# Altium integrated library ST Memory EPROM 1-16 Mbit.IntLib: 1093 symbols (part 14 of 27)
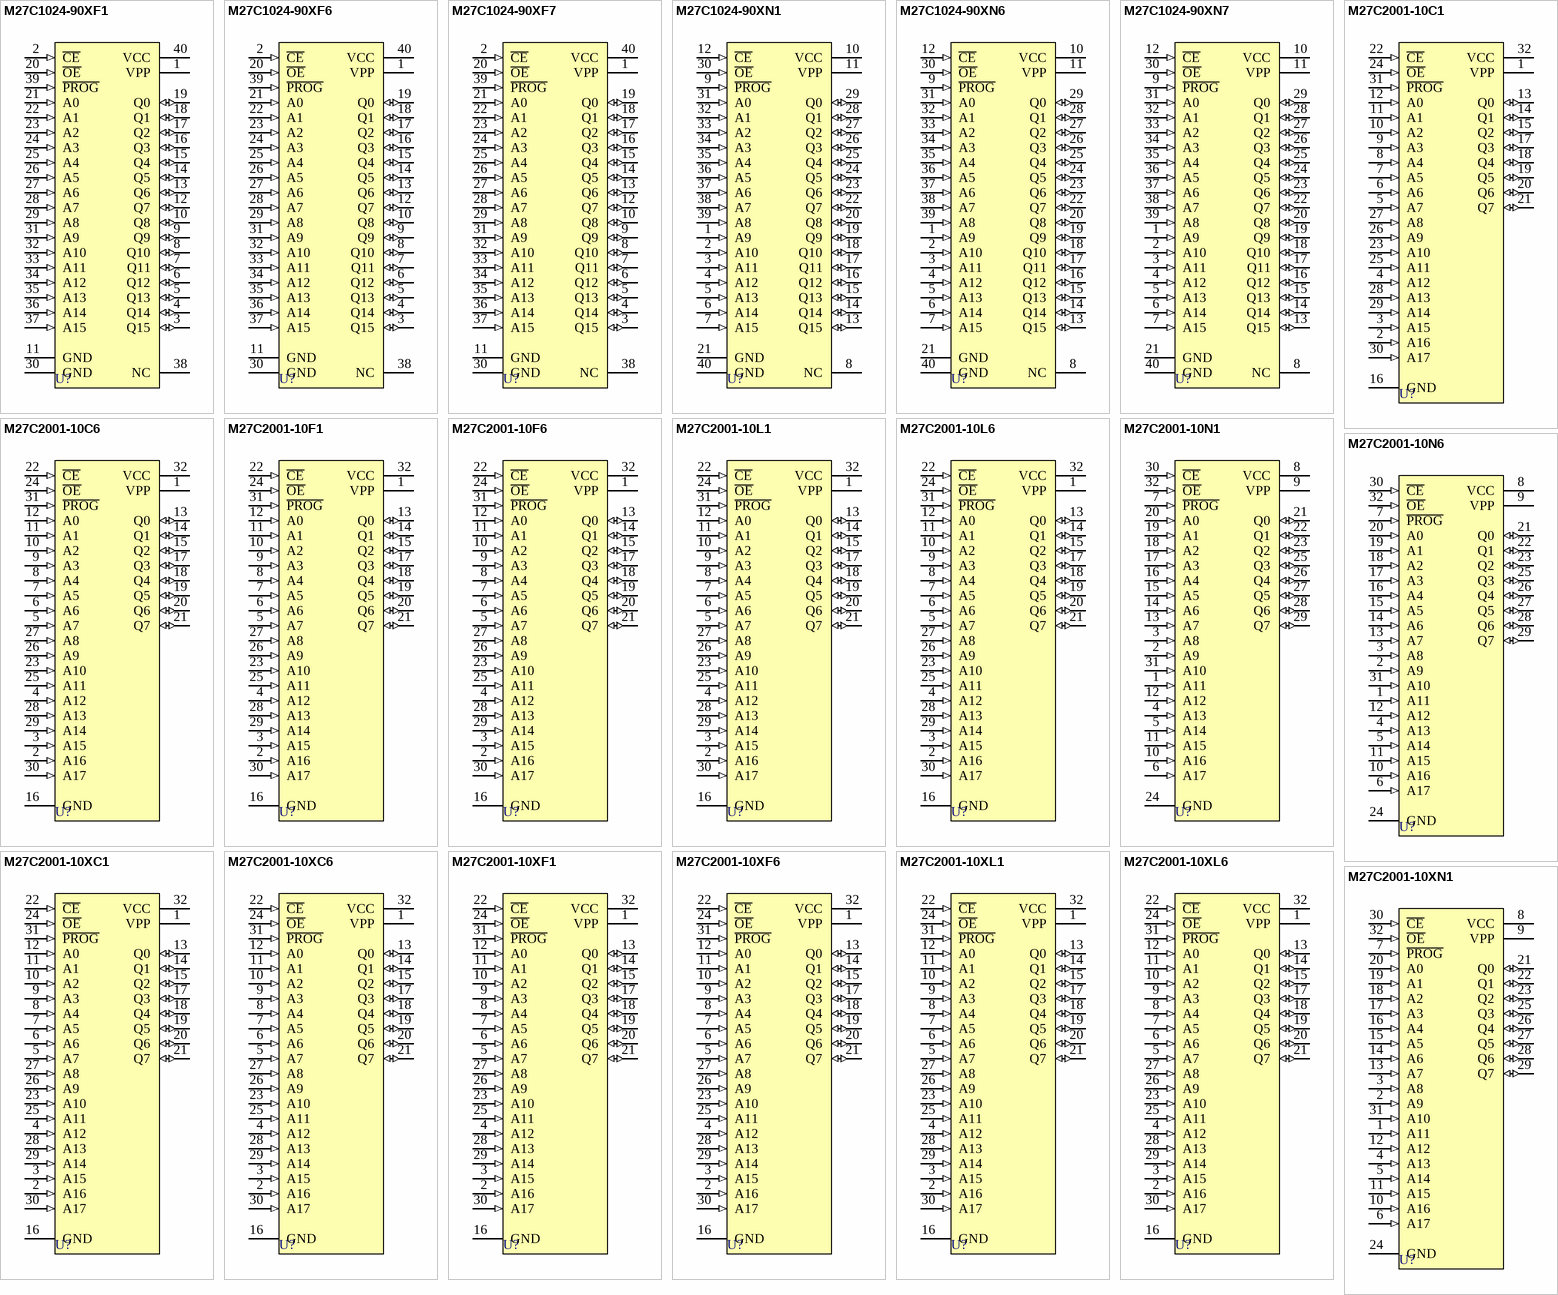
[diagram p70: symbols M27C1024-90XF1 to M27C2001-10XN1]

## M27C1024-90XN1
designator U?
1 Mbit (64Kb x 16) UV EPROM and OTP EPROM; Published: 24-Aug-2001; LatestRevisionDate: 06-Jun-2005; LatestRevisionNote: Stylized 3D Model Added.; DatasheetVersion: Sep-1998; PackageVersion: Jul-1998; PackageReference: TSOP40B; Publisher: Altium Limited; PackageDescription: Shrink Small Outline, Plastic, Thin; 40 Leads; Body Width 12.4 mm; Pitch 0.5 mm; Code_JEDEC: MO-142-CA; ComponentLink1Description: Manufacturer Link; ComponentLink1URL: http://www.st.com/; ComponentLink2Description: Datasheet; ComponentLink2URL: http://www.st.com/stonline/products/literature/ds/2381/m27c1024.pdf
footprint TSOP40B (Shrink Small Outline, Plastic, Thin; 40 Leads; Body Width 12.4 mm; Pitch 0.5 mm)
3D model TSOP40B (Shrink Small Outline, Plastic, Thin; 40 Leads; Body Width 12.4 mm; Pitch 0.5 mm)
pins: 1 A9 (in), 2 A10 (in), 3 A11 (in), 4 A12 (in), 5 A13 (in), 6 A14 (in), 7 A15 (in), 8 NC, 9 ~{PROG} (in), 10 VCC (power), 11 VPP (power), 12 ~{CE} (in), 13 Q15 (io), 14 Q14 (io), 15 Q13 (io), 16 Q12 (io), 17 Q11 (io), 18 Q10 (io), 19 Q9 (io), 20 Q8 (io), 21 GND (power), 22 Q7 (io), 23 Q6 (io), 24 Q5 (io), 25 Q4 (io), 26 Q3 (io), 27 Q2 (io), 28 Q1 (io), 29 Q0 (io), 30 ~{OE} (in), 31 A0 (in), 32 A1 (in), 33 A2 (in), 34 A3 (in), 35 A4 (in), 36 A5 (in), 37 A6 (in), 38 A7 (in), 39 A8 (in), 40 GND (power)

## M27C1024-90XN6
designator U?
1 Mbit (64Kb x 16) UV EPROM and OTP EPROM; Published: 24-Aug-2001; LatestRevisionDate: 06-Jun-2005; LatestRevisionNote: Stylized 3D Model Added.; DatasheetVersion: Sep-1998; PackageVersion: Jul-1998; PackageReference: TSOP40B; Publisher: Altium Limited; PackageDescription: Shrink Small Outline, Plastic, Thin; 40 Leads; Body Width 12.4 mm; Pitch 0.5 mm; Code_JEDEC: MO-142-CA; ComponentLink1Description: Manufacturer Link; ComponentLink1URL: http://www.st.com/; ComponentLink2Description: Datasheet; ComponentLink2URL: http://www.st.com/stonline/products/literature/ds/2381/m27c1024.pdf
footprint TSOP40B (Shrink Small Outline, Plastic, Thin; 40 Leads; Body Width 12.4 mm; Pitch 0.5 mm)
3D model TSOP40B (Shrink Small Outline, Plastic, Thin; 40 Leads; Body Width 12.4 mm; Pitch 0.5 mm)
pins: 1 A9 (in), 2 A10 (in), 3 A11 (in), 4 A12 (in), 5 A13 (in), 6 A14 (in), 7 A15 (in), 8 NC, 9 ~{PROG} (in), 10 VCC (power), 11 VPP (power), 12 ~{CE} (in), 13 Q15 (io), 14 Q14 (io), 15 Q13 (io), 16 Q12 (io), 17 Q11 (io), 18 Q10 (io), 19 Q9 (io), 20 Q8 (io), 21 GND (power), 22 Q7 (io), 23 Q6 (io), 24 Q5 (io), 25 Q4 (io), 26 Q3 (io), 27 Q2 (io), 28 Q1 (io), 29 Q0 (io), 30 ~{OE} (in), 31 A0 (in), 32 A1 (in), 33 A2 (in), 34 A3 (in), 35 A4 (in), 36 A5 (in), 37 A6 (in), 38 A7 (in), 39 A8 (in), 40 GND (power)

## M27C1024-90XN7
designator U?
1 Mbit (64Kb x 16) UV EPROM and OTP EPROM; Published: 24-Aug-2001; LatestRevisionDate: 06-Jun-2005; LatestRevisionNote: Stylized 3D Model Added.; DatasheetVersion: Sep-1998; PackageVersion: Jul-1998; PackageReference: TSOP40B; Publisher: Altium Limited; PackageDescription: Shrink Small Outline, Plastic, Thin; 40 Leads; Body Width 12.4 mm; Pitch 0.5 mm; Code_JEDEC: MO-142-CA; ComponentLink1Description: Manufacturer Link; ComponentLink1URL: http://www.st.com/; ComponentLink2Description: Datasheet; ComponentLink2URL: http://www.st.com/stonline/products/literature/ds/2381/m27c1024.pdf
footprint TSOP40B (Shrink Small Outline, Plastic, Thin; 40 Leads; Body Width 12.4 mm; Pitch 0.5 mm)
3D model TSOP40B (Shrink Small Outline, Plastic, Thin; 40 Leads; Body Width 12.4 mm; Pitch 0.5 mm)
pins: 1 A9 (in), 2 A10 (in), 3 A11 (in), 4 A12 (in), 5 A13 (in), 6 A14 (in), 7 A15 (in), 8 NC, 9 ~{PROG} (in), 10 VCC (power), 11 VPP (power), 12 ~{CE} (in), 13 Q15 (io), 14 Q14 (io), 15 Q13 (io), 16 Q12 (io), 17 Q11 (io), 18 Q10 (io), 19 Q9 (io), 20 Q8 (io), 21 GND (power), 22 Q7 (io), 23 Q6 (io), 24 Q5 (io), 25 Q4 (io), 26 Q3 (io), 27 Q2 (io), 28 Q1 (io), 29 Q0 (io), 30 ~{OE} (in), 31 A0 (in), 32 A1 (in), 33 A2 (in), 34 A3 (in), 35 A4 (in), 36 A5 (in), 37 A6 (in), 38 A7 (in), 39 A8 (in), 40 GND (power)

## M27C2001-10C1
designator U?
2 Mbit (256Kb x 8) UV EPROM and OTP EPROM; Published: 24-Aug-2001; LatestRevisionDate: 06-Jun-2005; LatestRevisionNote: Stylized 3D Model Added.; DatasheetVersion: Apr-1999; PackageVersion: Jun-1998; PackageReference: PLCC32; Publisher: Altium Limited; PackageDescription: Leaded Chip Carrier; 32 Leads; Body 11.5 x 14 mm; Code_JEDEC: MS-016-AE; Code_IPC: PLCC/R-32; ComponentLink1Description: Manufacturer Link; ComponentLink1URL: http://www.st.com/; ComponentLink2Description: Datasheet; ComponentLink2URL: http://www.st.com/stonline/products/literature/ds/2383/m27c2001.pdf
footprint PLCC32 (Leaded Chip Carrier; 32 Leads; Body 11.5 x 14 mm)
3D model M27C2001-PLCC32 (Leaded Chip Carrier; 32 Leads; Body 11.5 x 14 mm)
pins: 1 VPP (power), 2 A16 (in), 3 A15 (in), 4 A12 (in), 5 A7 (in), 6 A6 (in), 7 A5 (in), 8 A4 (in), 9 A3 (in), 10 A2 (in), 11 A1 (in), 12 A0 (in), 13 Q0 (io), 14 Q1 (io), 15 Q2 (io), 16 GND (power), 17 Q3 (io), 18 Q4 (io), 19 Q5 (io), 20 Q6 (io), 21 Q7 (io), 22 ~{CE} (in), 23 A10 (in), 24 ~{OE} (in), 25 A11 (in), 26 A9 (in), 27 A8 (in), 28 A13 (in), 29 A14 (in), 30 A17 (in), 31 ~{PROG} (in), 32 VCC (power)

## M27C2001-10C6
designator U?
2 Mbit (256Kb x 8) UV EPROM and OTP EPROM; Published: 24-Aug-2001; LatestRevisionDate: 06-Jun-2005; LatestRevisionNote: Stylized 3D Model Added.; DatasheetVersion: Apr-1999; PackageVersion: Jun-1998; PackageReference: PLCC32; Publisher: Altium Limited; PackageDescription: Leaded Chip Carrier; 32 Leads; Body 11.5 x 14 mm; Code_JEDEC: MS-016-AE; Code_IPC: PLCC/R-32; ComponentLink1Description: Manufacturer Link; ComponentLink1URL: http://www.st.com/; ComponentLink2Description: Datasheet; ComponentLink2URL: http://www.st.com/stonline/products/literature/ds/2383/m27c2001.pdf
footprint PLCC32 (Leaded Chip Carrier; 32 Leads; Body 11.5 x 14 mm)
3D model M27C2001-PLCC32 (Leaded Chip Carrier; 32 Leads; Body 11.5 x 14 mm)
pins: 1 VPP (power), 2 A16 (in), 3 A15 (in), 4 A12 (in), 5 A7 (in), 6 A6 (in), 7 A5 (in), 8 A4 (in), 9 A3 (in), 10 A2 (in), 11 A1 (in), 12 A0 (in), 13 Q0 (io), 14 Q1 (io), 15 Q2 (io), 16 GND (power), 17 Q3 (io), 18 Q4 (io), 19 Q5 (io), 20 Q6 (io), 21 Q7 (io), 22 ~{CE} (in), 23 A10 (in), 24 ~{OE} (in), 25 A11 (in), 26 A9 (in), 27 A8 (in), 28 A13 (in), 29 A14 (in), 30 A17 (in), 31 ~{PROG} (in), 32 VCC (power)

## M27C2001-10F1
designator U?
2 Mbit (256Kb x 8) UV EPROM and OTP EPROM; Published: 24-Aug-2001; LatestRevisionDate: 06-Jun-2005; LatestRevisionNote: Stylized 3D Model Added.; DatasheetVersion: Apr-1999; PackageReference: FDIP32W; Publisher: Altium Limited; PackageDescription: Ceramic Frit-seal DIP, Window; 32 Leads; Row Spacing 15.24 mm; Pitch 2.54 mm; ComponentLink1Description: Manufacturer Link; ComponentLink1URL: http://www.st.com/; ComponentLink2Description: Datasheet; ComponentLink2URL: http://www.st.com/stonline/products/literature/ds/2383/m27c2001.pdf
footprint FDIP32W (Ceramic Frit-seal DIP, Window; 32 Leads; Row Spacing 15.24 mm; Pitch 2.54 mm)
3D model FDIP32W (Ceramic Frit-seal DIP, Window; 32 Leads; Row Spacing 15.24 mm; Pitch 2.54 mm)
pins: 1 VPP (power), 2 A16 (in), 3 A15 (in), 4 A12 (in), 5 A7 (in), 6 A6 (in), 7 A5 (in), 8 A4 (in), 9 A3 (in), 10 A2 (in), 11 A1 (in), 12 A0 (in), 13 Q0 (io), 14 Q1 (io), 15 Q2 (io), 16 GND (power), 17 Q3 (io), 18 Q4 (io), 19 Q5 (io), 20 Q6 (io), 21 Q7 (io), 22 ~{CE} (in), 23 A10 (in), 24 ~{OE} (in), 25 A11 (in), 26 A9 (in), 27 A8 (in), 28 A13 (in), 29 A14 (in), 30 A17 (in), 31 ~{PROG} (in), 32 VCC (power)

## M27C2001-10F6
designator U?
2 Mbit (256Kb x 8) UV EPROM and OTP EPROM; Published: 24-Aug-2001; LatestRevisionDate: 06-Jun-2005; LatestRevisionNote: Stylized 3D Model Added.; DatasheetVersion: Apr-1999; PackageReference: FDIP32W; Publisher: Altium Limited; PackageDescription: Ceramic Frit-seal DIP, Window; 32 Leads; Row Spacing 15.24 mm; Pitch 2.54 mm; ComponentLink1Description: Manufacturer Link; ComponentLink1URL: http://www.st.com/; ComponentLink2Description: Datasheet; ComponentLink2URL: http://www.st.com/stonline/products/literature/ds/2383/m27c2001.pdf
footprint FDIP32W (Ceramic Frit-seal DIP, Window; 32 Leads; Row Spacing 15.24 mm; Pitch 2.54 mm)
3D model FDIP32W (Ceramic Frit-seal DIP, Window; 32 Leads; Row Spacing 15.24 mm; Pitch 2.54 mm)
pins: 1 VPP (power), 2 A16 (in), 3 A15 (in), 4 A12 (in), 5 A7 (in), 6 A6 (in), 7 A5 (in), 8 A4 (in), 9 A3 (in), 10 A2 (in), 11 A1 (in), 12 A0 (in), 13 Q0 (io), 14 Q1 (io), 15 Q2 (io), 16 GND (power), 17 Q3 (io), 18 Q4 (io), 19 Q5 (io), 20 Q6 (io), 21 Q7 (io), 22 ~{CE} (in), 23 A10 (in), 24 ~{OE} (in), 25 A11 (in), 26 A9 (in), 27 A8 (in), 28 A13 (in), 29 A14 (in), 30 A17 (in), 31 ~{PROG} (in), 32 VCC (power)

## M27C2001-10L1
designator U?
2 Mbit (256Kb x 8) UV EPROM and OTP EPROM; Published: 24-Aug-2001; LatestRevisionDate: 17-Jul-2002; LatestRevisionNote: Re-released for DXP Platform.; DatasheetVersion: Apr-1999; PackageReference: LCCC32W; Publisher: Altium Limited; PackageDescription: Leadless Chip Carrier, Ceramic, Window; 32 Terminals; Body 11.4 x 14 mm; ComponentLink1Description: Manufacturer Link; ComponentLink1URL: http://www.st.com/; ComponentLink2Description: Datasheet; ComponentLink2URL: http://www.st.com/stonline/products/literature/ds/2383/m27c2001.pdf
footprint LCCC32W (Leadless Chip Carrier, Ceramic, Window; 32 Terminals; Body 11.4 x 14 mm)
pins: 1 VPP (power), 2 A16 (in), 3 A15 (in), 4 A12 (in), 5 A7 (in), 6 A6 (in), 7 A5 (in), 8 A4 (in), 9 A3 (in), 10 A2 (in), 11 A1 (in), 12 A0 (in), 13 Q0 (io), 14 Q1 (io), 15 Q2 (io), 16 GND (power), 17 Q3 (io), 18 Q4 (io), 19 Q5 (io), 20 Q6 (io), 21 Q7 (io), 22 ~{CE} (in), 23 A10 (in), 24 ~{OE} (in), 25 A11 (in), 26 A9 (in), 27 A8 (in), 28 A13 (in), 29 A14 (in), 30 A17 (in), 31 ~{PROG} (in), 32 VCC (power)

## M27C2001-10L6
designator U?
2 Mbit (256Kb x 8) UV EPROM and OTP EPROM; Published: 24-Aug-2001; LatestRevisionDate: 17-Jul-2002; LatestRevisionNote: Re-released for DXP Platform.; DatasheetVersion: Apr-1999; PackageReference: LCCC32W; Publisher: Altium Limited; PackageDescription: Leadless Chip Carrier, Ceramic, Window; 32 Terminals; Body 11.4 x 14 mm; ComponentLink1Description: Manufacturer Link; ComponentLink1URL: http://www.st.com/; ComponentLink2Description: Datasheet; ComponentLink2URL: http://www.st.com/stonline/products/literature/ds/2383/m27c2001.pdf
footprint LCCC32W (Leadless Chip Carrier, Ceramic, Window; 32 Terminals; Body 11.4 x 14 mm)
pins: 1 VPP (power), 2 A16 (in), 3 A15 (in), 4 A12 (in), 5 A7 (in), 6 A6 (in), 7 A5 (in), 8 A4 (in), 9 A3 (in), 10 A2 (in), 11 A1 (in), 12 A0 (in), 13 Q0 (io), 14 Q1 (io), 15 Q2 (io), 16 GND (power), 17 Q3 (io), 18 Q4 (io), 19 Q5 (io), 20 Q6 (io), 21 Q7 (io), 22 ~{CE} (in), 23 A10 (in), 24 ~{OE} (in), 25 A11 (in), 26 A9 (in), 27 A8 (in), 28 A13 (in), 29 A14 (in), 30 A17 (in), 31 ~{PROG} (in), 32 VCC (power)

## M27C2001-10N1
designator U?
2 Mbit (256Kb x 8) UV EPROM and OTP EPROM; Published: 24-Aug-2001; LatestRevisionDate: 06-Jun-2005; LatestRevisionNote: Stylized 3D Model Added.; DatasheetVersion: Apr-1999; PackageVersion: Mar-1999; PackageReference: TSOP32; Publisher: Altium Limited; PackageDescription: Shrink Small Outline, Plastic, Thin; 32 Leads; Body Width 18.4 mm; Pitch 0.5 mm; Code_JEDEC: MO-142-BD; ComponentLink1Description: Manufacturer Link; ComponentLink1URL: http://www.st.com/; ComponentLink2Description: Datasheet; ComponentLink2URL: http://www.st.com/stonline/products/literature/ds/2383/m27c2001.pdf
footprint TSOP32 (Shrink Small Outline, Plastic, Thin; 32 Leads; Body Width 18.4 mm; Pitch 0.5 mm)
3D model TSOP32 (Shrink Small Outline, Plastic, Thin; 32 Leads; Body Width 18.4 mm; Pitch 0.5 mm)
pins: 1 A11 (in), 2 A9 (in), 3 A8 (in), 4 A13 (in), 5 A14 (in), 6 A17 (in), 7 ~{PROG} (in), 8 VCC (power), 9 VPP (power), 10 A16 (in), 11 A15 (in), 12 A12 (in), 13 A7 (in), 14 A6 (in), 15 A5 (in), 16 A4 (in), 17 A3 (in), 18 A2 (in), 19 A1 (in), 20 A0 (in), 21 Q0 (io), 22 Q1 (io), 23 Q2 (io), 24 GND (power), 25 Q3 (io), 26 Q4 (io), 27 Q5 (io), 28 Q6 (io), 29 Q7 (io), 30 ~{CE} (in), 31 A10 (in), 32 ~{OE} (in)

## M27C2001-10N6
designator U?
2 Mbit (256Kb x 8) UV EPROM and OTP EPROM; Published: 24-Aug-2001; LatestRevisionDate: 06-Jun-2005; LatestRevisionNote: Stylized 3D Model Added.; DatasheetVersion: Apr-1999; PackageVersion: Mar-1999; PackageReference: TSOP32; Publisher: Altium Limited; PackageDescription: Shrink Small Outline, Plastic, Thin; 32 Leads; Body Width 18.4 mm; Pitch 0.5 mm; Code_JEDEC: MO-142-BD; ComponentLink1Description: Manufacturer Link; ComponentLink1URL: http://www.st.com/; ComponentLink2Description: Datasheet; ComponentLink2URL: http://www.st.com/stonline/products/literature/ds/2383/m27c2001.pdf
footprint TSOP32 (Shrink Small Outline, Plastic, Thin; 32 Leads; Body Width 18.4 mm; Pitch 0.5 mm)
3D model TSOP32 (Shrink Small Outline, Plastic, Thin; 32 Leads; Body Width 18.4 mm; Pitch 0.5 mm)
pins: 1 A11 (in), 2 A9 (in), 3 A8 (in), 4 A13 (in), 5 A14 (in), 6 A17 (in), 7 ~{PROG} (in), 8 VCC (power), 9 VPP (power), 10 A16 (in), 11 A15 (in), 12 A12 (in), 13 A7 (in), 14 A6 (in), 15 A5 (in), 16 A4 (in), 17 A3 (in), 18 A2 (in), 19 A1 (in), 20 A0 (in), 21 Q0 (io), 22 Q1 (io), 23 Q2 (io), 24 GND (power), 25 Q3 (io), 26 Q4 (io), 27 Q5 (io), 28 Q6 (io), 29 Q7 (io), 30 ~{CE} (in), 31 A10 (in), 32 ~{OE} (in)

## M27C2001-10XC1
designator U?
2 Mbit (256Kb x 8) UV EPROM and OTP EPROM; Published: 24-Aug-2001; LatestRevisionDate: 06-Jun-2005; LatestRevisionNote: Stylized 3D Model Added.; DatasheetVersion: Apr-1999; PackageVersion: Jun-1998; PackageReference: PLCC32; Publisher: Altium Limited; PackageDescription: Leaded Chip Carrier; 32 Leads; Body 11.5 x 14 mm; Code_JEDEC: MS-016-AE; Code_IPC: PLCC/R-32; ComponentLink1Description: Manufacturer Link; ComponentLink1URL: http://www.st.com/; ComponentLink2Description: Datasheet; ComponentLink2URL: http://www.st.com/stonline/products/literature/ds/2383/m27c2001.pdf
footprint PLCC32 (Leaded Chip Carrier; 32 Leads; Body 11.5 x 14 mm)
3D model M27C2001-PLCC32 (Leaded Chip Carrier; 32 Leads; Body 11.5 x 14 mm)
pins: 1 VPP (power), 2 A16 (in), 3 A15 (in), 4 A12 (in), 5 A7 (in), 6 A6 (in), 7 A5 (in), 8 A4 (in), 9 A3 (in), 10 A2 (in), 11 A1 (in), 12 A0 (in), 13 Q0 (io), 14 Q1 (io), 15 Q2 (io), 16 GND (power), 17 Q3 (io), 18 Q4 (io), 19 Q5 (io), 20 Q6 (io), 21 Q7 (io), 22 ~{CE} (in), 23 A10 (in), 24 ~{OE} (in), 25 A11 (in), 26 A9 (in), 27 A8 (in), 28 A13 (in), 29 A14 (in), 30 A17 (in), 31 ~{PROG} (in), 32 VCC (power)

## M27C2001-10XC6
designator U?
2 Mbit (256Kb x 8) UV EPROM and OTP EPROM; Published: 24-Aug-2001; LatestRevisionDate: 06-Jun-2005; LatestRevisionNote: Stylized 3D Model Added.; DatasheetVersion: Apr-1999; PackageVersion: Jun-1998; PackageReference: PLCC32; Publisher: Altium Limited; PackageDescription: Leaded Chip Carrier; 32 Leads; Body 11.5 x 14 mm; Code_JEDEC: MS-016-AE; Code_IPC: PLCC/R-32; ComponentLink1Description: Manufacturer Link; ComponentLink1URL: http://www.st.com/; ComponentLink2Description: Datasheet; ComponentLink2URL: http://www.st.com/stonline/products/literature/ds/2383/m27c2001.pdf
footprint PLCC32 (Leaded Chip Carrier; 32 Leads; Body 11.5 x 14 mm)
3D model M27C2001-PLCC32 (Leaded Chip Carrier; 32 Leads; Body 11.5 x 14 mm)
pins: 1 VPP (power), 2 A16 (in), 3 A15 (in), 4 A12 (in), 5 A7 (in), 6 A6 (in), 7 A5 (in), 8 A4 (in), 9 A3 (in), 10 A2 (in), 11 A1 (in), 12 A0 (in), 13 Q0 (io), 14 Q1 (io), 15 Q2 (io), 16 GND (power), 17 Q3 (io), 18 Q4 (io), 19 Q5 (io), 20 Q6 (io), 21 Q7 (io), 22 ~{CE} (in), 23 A10 (in), 24 ~{OE} (in), 25 A11 (in), 26 A9 (in), 27 A8 (in), 28 A13 (in), 29 A14 (in), 30 A17 (in), 31 ~{PROG} (in), 32 VCC (power)

## M27C2001-10XF1
designator U?
2 Mbit (256Kb x 8) UV EPROM and OTP EPROM; Published: 24-Aug-2001; LatestRevisionDate: 06-Jun-2005; LatestRevisionNote: Stylized 3D Model Added.; DatasheetVersion: Apr-1999; PackageReference: FDIP32W; Publisher: Altium Limited; PackageDescription: Ceramic Frit-seal DIP, Window; 32 Leads; Row Spacing 15.24 mm; Pitch 2.54 mm; ComponentLink1Description: Manufacturer Link; ComponentLink1URL: http://www.st.com/; ComponentLink2Description: Datasheet; ComponentLink2URL: http://www.st.com/stonline/products/literature/ds/2383/m27c2001.pdf
footprint FDIP32W (Ceramic Frit-seal DIP, Window; 32 Leads; Row Spacing 15.24 mm; Pitch 2.54 mm)
3D model FDIP32W (Ceramic Frit-seal DIP, Window; 32 Leads; Row Spacing 15.24 mm; Pitch 2.54 mm)
pins: 1 VPP (power), 2 A16 (in), 3 A15 (in), 4 A12 (in), 5 A7 (in), 6 A6 (in), 7 A5 (in), 8 A4 (in), 9 A3 (in), 10 A2 (in), 11 A1 (in), 12 A0 (in), 13 Q0 (io), 14 Q1 (io), 15 Q2 (io), 16 GND (power), 17 Q3 (io), 18 Q4 (io), 19 Q5 (io), 20 Q6 (io), 21 Q7 (io), 22 ~{CE} (in), 23 A10 (in), 24 ~{OE} (in), 25 A11 (in), 26 A9 (in), 27 A8 (in), 28 A13 (in), 29 A14 (in), 30 A17 (in), 31 ~{PROG} (in), 32 VCC (power)

## M27C2001-10XF6
designator U?
2 Mbit (256Kb x 8) UV EPROM and OTP EPROM; Published: 24-Aug-2001; LatestRevisionDate: 06-Jun-2005; LatestRevisionNote: Stylized 3D Model Added.; DatasheetVersion: Apr-1999; PackageReference: FDIP32W; Publisher: Altium Limited; PackageDescription: Ceramic Frit-seal DIP, Window; 32 Leads; Row Spacing 15.24 mm; Pitch 2.54 mm; ComponentLink1Description: Manufacturer Link; ComponentLink1URL: http://www.st.com/; ComponentLink2Description: Datasheet; ComponentLink2URL: http://www.st.com/stonline/products/literature/ds/2383/m27c2001.pdf
footprint FDIP32W (Ceramic Frit-seal DIP, Window; 32 Leads; Row Spacing 15.24 mm; Pitch 2.54 mm)
3D model FDIP32W (Ceramic Frit-seal DIP, Window; 32 Leads; Row Spacing 15.24 mm; Pitch 2.54 mm)
pins: 1 VPP (power), 2 A16 (in), 3 A15 (in), 4 A12 (in), 5 A7 (in), 6 A6 (in), 7 A5 (in), 8 A4 (in), 9 A3 (in), 10 A2 (in), 11 A1 (in), 12 A0 (in), 13 Q0 (io), 14 Q1 (io), 15 Q2 (io), 16 GND (power), 17 Q3 (io), 18 Q4 (io), 19 Q5 (io), 20 Q6 (io), 21 Q7 (io), 22 ~{CE} (in), 23 A10 (in), 24 ~{OE} (in), 25 A11 (in), 26 A9 (in), 27 A8 (in), 28 A13 (in), 29 A14 (in), 30 A17 (in), 31 ~{PROG} (in), 32 VCC (power)

## M27C2001-10XL1
designator U?
2 Mbit (256Kb x 8) UV EPROM and OTP EPROM; Published: 24-Aug-2001; LatestRevisionDate: 17-Jul-2002; LatestRevisionNote: Re-released for DXP Platform.; DatasheetVersion: Apr-1999; PackageReference: LCCC32W; Publisher: Altium Limited; PackageDescription: Leadless Chip Carrier, Ceramic, Window; 32 Terminals; Body 11.4 x 14 mm; ComponentLink1Description: Manufacturer Link; ComponentLink1URL: http://www.st.com/; ComponentLink2Description: Datasheet; ComponentLink2URL: http://www.st.com/stonline/products/literature/ds/2383/m27c2001.pdf
footprint LCCC32W (Leadless Chip Carrier, Ceramic, Window; 32 Terminals; Body 11.4 x 14 mm)
pins: 1 VPP (power), 2 A16 (in), 3 A15 (in), 4 A12 (in), 5 A7 (in), 6 A6 (in), 7 A5 (in), 8 A4 (in), 9 A3 (in), 10 A2 (in), 11 A1 (in), 12 A0 (in), 13 Q0 (io), 14 Q1 (io), 15 Q2 (io), 16 GND (power), 17 Q3 (io), 18 Q4 (io), 19 Q5 (io), 20 Q6 (io), 21 Q7 (io), 22 ~{CE} (in), 23 A10 (in), 24 ~{OE} (in), 25 A11 (in), 26 A9 (in), 27 A8 (in), 28 A13 (in), 29 A14 (in), 30 A17 (in), 31 ~{PROG} (in), 32 VCC (power)

## M27C2001-10XL6
designator U?
2 Mbit (256Kb x 8) UV EPROM and OTP EPROM; Published: 24-Aug-2001; LatestRevisionDate: 17-Jul-2002; LatestRevisionNote: Re-released for DXP Platform.; DatasheetVersion: Apr-1999; PackageReference: LCCC32W; Publisher: Altium Limited; PackageDescription: Leadless Chip Carrier, Ceramic, Window; 32 Terminals; Body 11.4 x 14 mm; ComponentLink1Description: Manufacturer Link; ComponentLink1URL: http://www.st.com/; ComponentLink2Description: Datasheet; ComponentLink2URL: http://www.st.com/stonline/products/literature/ds/2383/m27c2001.pdf
footprint LCCC32W (Leadless Chip Carrier, Ceramic, Window; 32 Terminals; Body 11.4 x 14 mm)
pins: 1 VPP (power), 2 A16 (in), 3 A15 (in), 4 A12 (in), 5 A7 (in), 6 A6 (in), 7 A5 (in), 8 A4 (in), 9 A3 (in), 10 A2 (in), 11 A1 (in), 12 A0 (in), 13 Q0 (io), 14 Q1 (io), 15 Q2 (io), 16 GND (power), 17 Q3 (io), 18 Q4 (io), 19 Q5 (io), 20 Q6 (io), 21 Q7 (io), 22 ~{CE} (in), 23 A10 (in), 24 ~{OE} (in), 25 A11 (in), 26 A9 (in), 27 A8 (in), 28 A13 (in), 29 A14 (in), 30 A17 (in), 31 ~{PROG} (in), 32 VCC (power)

## M27C2001-10XN1
designator U?
2 Mbit (256Kb x 8) UV EPROM and OTP EPROM; Published: 24-Aug-2001; LatestRevisionDate: 06-Jun-2005; LatestRevisionNote: Stylized 3D Model Added.; DatasheetVersion: Apr-1999; PackageVersion: Mar-1999; PackageReference: TSOP32; Publisher: Altium Limited; PackageDescription: Shrink Small Outline, Plastic, Thin; 32 Leads; Body Width 18.4 mm; Pitch 0.5 mm; Code_JEDEC: MO-142-BD; ComponentLink1Description: Manufacturer Link; ComponentLink1URL: http://www.st.com/; ComponentLink2Description: Datasheet; ComponentLink2URL: http://www.st.com/stonline/products/literature/ds/2383/m27c2001.pdf
footprint TSOP32 (Shrink Small Outline, Plastic, Thin; 32 Leads; Body Width 18.4 mm; Pitch 0.5 mm)
3D model TSOP32 (Shrink Small Outline, Plastic, Thin; 32 Leads; Body Width 18.4 mm; Pitch 0.5 mm)
pins: 1 A11 (in), 2 A9 (in), 3 A8 (in), 4 A13 (in), 5 A14 (in), 6 A17 (in), 7 ~{PROG} (in), 8 VCC (power), 9 VPP (power), 10 A16 (in), 11 A15 (in), 12 A12 (in), 13 A7 (in), 14 A6 (in), 15 A5 (in), 16 A4 (in), 17 A3 (in), 18 A2 (in), 19 A1 (in), 20 A0 (in), 21 Q0 (io), 22 Q1 (io), 23 Q2 (io), 24 GND (power), 25 Q3 (io), 26 Q4 (io), 27 Q5 (io), 28 Q6 (io), 29 Q7 (io), 30 ~{CE} (in), 31 A10 (in), 32 ~{OE} (in)

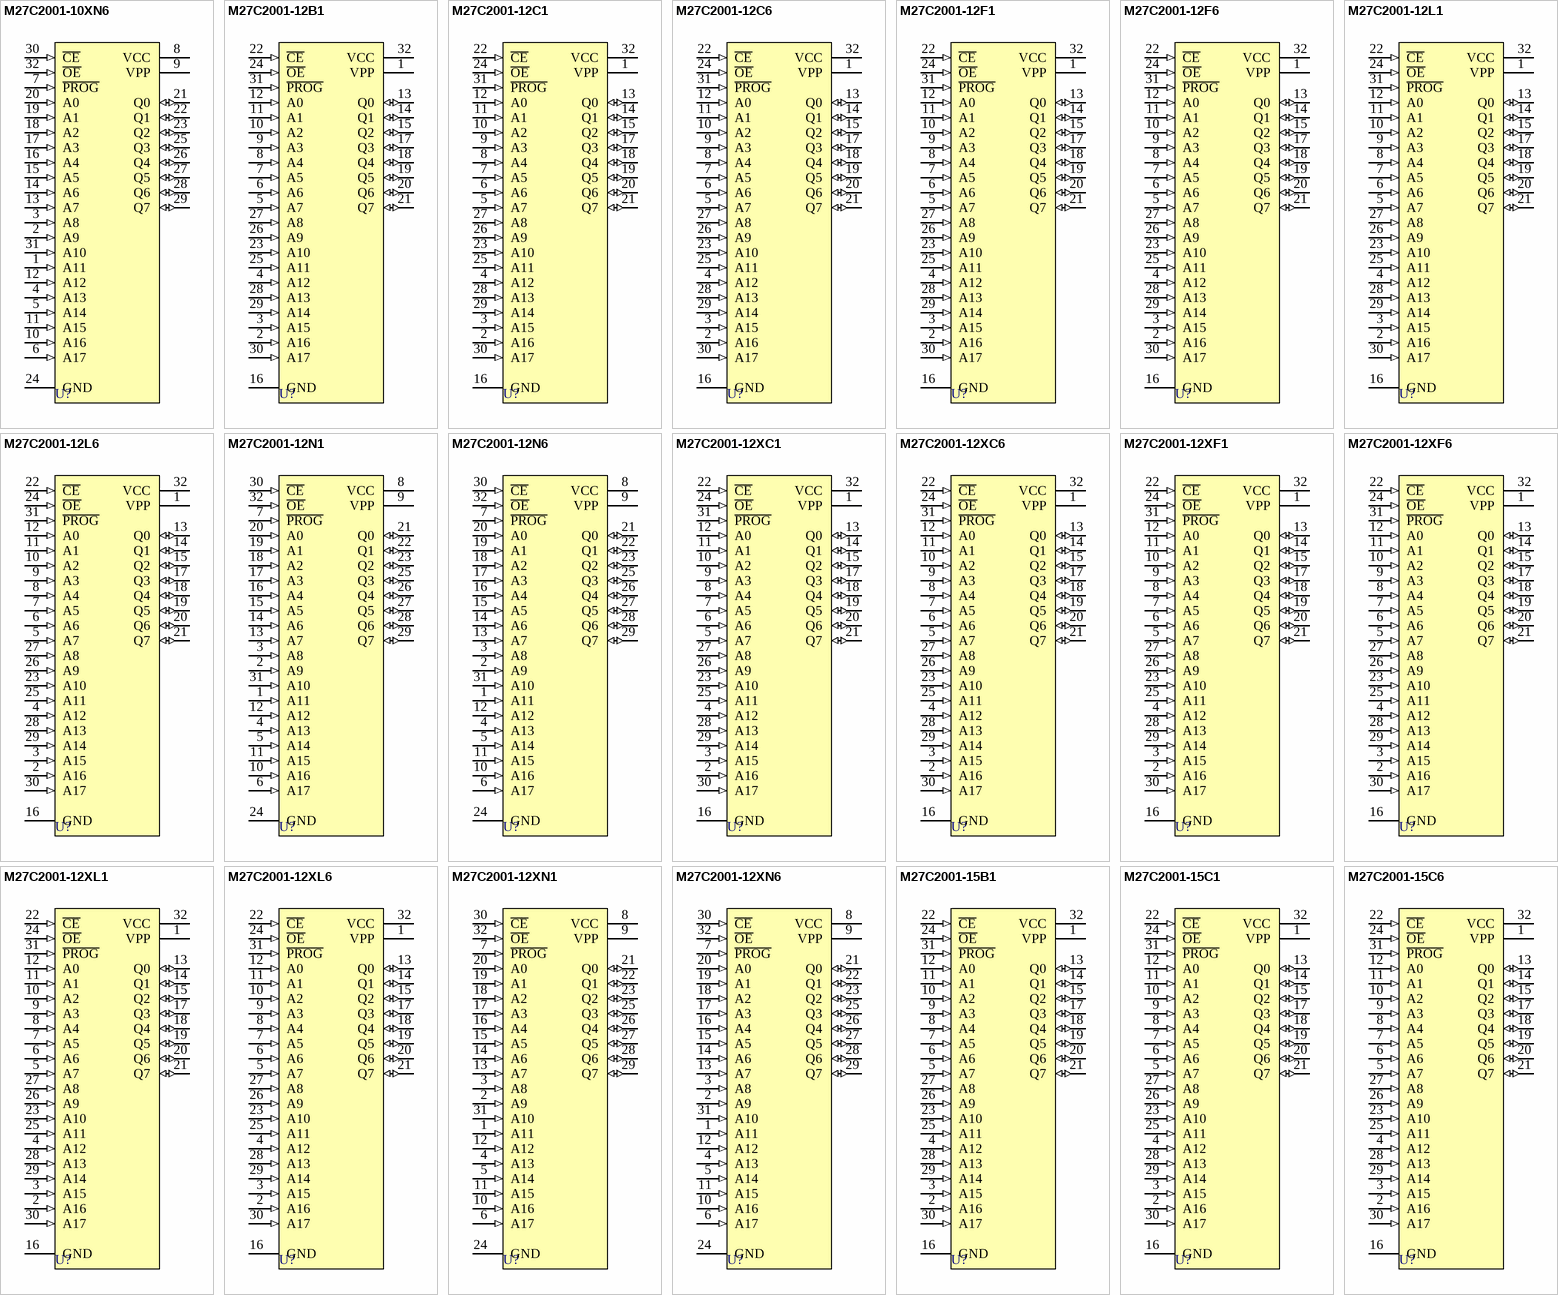
[diagram p28: symbols M27C2001-10XN6 to M27C2001-15C6]

## M27C2001-10XN6
designator U?
2 Mbit (256Kb x 8) UV EPROM and OTP EPROM; Published: 24-Aug-2001; LatestRevisionDate: 06-Jun-2005; LatestRevisionNote: Stylized 3D Model Added.; DatasheetVersion: Apr-1999; PackageVersion: Mar-1999; PackageReference: TSOP32; Publisher: Altium Limited; PackageDescription: Shrink Small Outline, Plastic, Thin; 32 Leads; Body Width 18.4 mm; Pitch 0.5 mm; Code_JEDEC: MO-142-BD; ComponentLink1Description: Manufacturer Link; ComponentLink1URL: http://www.st.com/; ComponentLink2Description: Datasheet; ComponentLink2URL: http://www.st.com/stonline/products/literature/ds/2383/m27c2001.pdf
footprint TSOP32 (Shrink Small Outline, Plastic, Thin; 32 Leads; Body Width 18.4 mm; Pitch 0.5 mm)
3D model TSOP32 (Shrink Small Outline, Plastic, Thin; 32 Leads; Body Width 18.4 mm; Pitch 0.5 mm)
pins: 1 A11 (in), 2 A9 (in), 3 A8 (in), 4 A13 (in), 5 A14 (in), 6 A17 (in), 7 ~{PROG} (in), 8 VCC (power), 9 VPP (power), 10 A16 (in), 11 A15 (in), 12 A12 (in), 13 A7 (in), 14 A6 (in), 15 A5 (in), 16 A4 (in), 17 A3 (in), 18 A2 (in), 19 A1 (in), 20 A0 (in), 21 Q0 (io), 22 Q1 (io), 23 Q2 (io), 24 GND (power), 25 Q3 (io), 26 Q4 (io), 27 Q5 (io), 28 Q6 (io), 29 Q7 (io), 30 ~{CE} (in), 31 A10 (in), 32 ~{OE} (in)

## M27C2001-12B1
designator U?
2 Mbit (256Kb x 8) UV EPROM and OTP EPROM; Published: 24-Aug-2001; LatestRevisionDate: 06-Jun-2005; LatestRevisionNote: Stylized 3D Model Added.; DatasheetVersion: Apr-1999; PackageVersion: 1998; PackageReference: PDIP32; Publisher: Altium Limited; PackageDescription: DIP, Plastic; 32 Leads; Row Spacing 15.24 mm; Pitch 2.54 mm; ComponentLink1Description: Manufacturer Link; ComponentLink1URL: http://www.st.com/; ComponentLink2Description: Datasheet; ComponentLink2URL: http://www.st.com/stonline/products/literature/ds/2383/m27c2001.pdf
footprint PDIP32 (DIP, Plastic; 32 Leads; Row Spacing 15.24 mm; Pitch 2.54 mm)
3D model FDIP32W (DIP, Plastic; 32 Leads; Row Spacing 15.24 mm; Pitch 2.54 mm)
pins: 1 VPP (power), 2 A16 (in), 3 A15 (in), 4 A12 (in), 5 A7 (in), 6 A6 (in), 7 A5 (in), 8 A4 (in), 9 A3 (in), 10 A2 (in), 11 A1 (in), 12 A0 (in), 13 Q0 (io), 14 Q1 (io), 15 Q2 (io), 16 GND (power), 17 Q3 (io), 18 Q4 (io), 19 Q5 (io), 20 Q6 (io), 21 Q7 (io), 22 ~{CE} (in), 23 A10 (in), 24 ~{OE} (in), 25 A11 (in), 26 A9 (in), 27 A8 (in), 28 A13 (in), 29 A14 (in), 30 A17 (in), 31 ~{PROG} (in), 32 VCC (power)

## M27C2001-12C1
designator U?
2 Mbit (256Kb x 8) UV EPROM and OTP EPROM; Published: 24-Aug-2001; LatestRevisionDate: 06-Jun-2005; LatestRevisionNote: Stylized 3D Model Added.; DatasheetVersion: Apr-1999; PackageVersion: Jun-1998; PackageReference: PLCC32; Publisher: Altium Limited; PackageDescription: Leaded Chip Carrier; 32 Leads; Body 11.5 x 14 mm; Code_JEDEC: MS-016-AE; Code_IPC: PLCC/R-32; ComponentLink1Description: Manufacturer Link; ComponentLink1URL: http://www.st.com/; ComponentLink2Description: Datasheet; ComponentLink2URL: http://www.st.com/stonline/products/literature/ds/2383/m27c2001.pdf
footprint PLCC32 (Leaded Chip Carrier; 32 Leads; Body 11.5 x 14 mm)
3D model M27C2001-PLCC32 (Leaded Chip Carrier; 32 Leads; Body 11.5 x 14 mm)
pins: 1 VPP (power), 2 A16 (in), 3 A15 (in), 4 A12 (in), 5 A7 (in), 6 A6 (in), 7 A5 (in), 8 A4 (in), 9 A3 (in), 10 A2 (in), 11 A1 (in), 12 A0 (in), 13 Q0 (io), 14 Q1 (io), 15 Q2 (io), 16 GND (power), 17 Q3 (io), 18 Q4 (io), 19 Q5 (io), 20 Q6 (io), 21 Q7 (io), 22 ~{CE} (in), 23 A10 (in), 24 ~{OE} (in), 25 A11 (in), 26 A9 (in), 27 A8 (in), 28 A13 (in), 29 A14 (in), 30 A17 (in), 31 ~{PROG} (in), 32 VCC (power)

## M27C2001-12C6
designator U?
2 Mbit (256Kb x 8) UV EPROM and OTP EPROM; Published: 24-Aug-2001; LatestRevisionDate: 06-Jun-2005; LatestRevisionNote: Stylized 3D Model Added.; DatasheetVersion: Apr-1999; PackageVersion: Jun-1998; PackageReference: PLCC32; Publisher: Altium Limited; PackageDescription: Leaded Chip Carrier; 32 Leads; Body 11.5 x 14 mm; Code_JEDEC: MS-016-AE; Code_IPC: PLCC/R-32; ComponentLink1Description: Manufacturer Link; ComponentLink1URL: http://www.st.com/; ComponentLink2Description: Datasheet; ComponentLink2URL: http://www.st.com/stonline/products/literature/ds/2383/m27c2001.pdf
footprint PLCC32 (Leaded Chip Carrier; 32 Leads; Body 11.5 x 14 mm)
3D model M27C2001-PLCC32 (Leaded Chip Carrier; 32 Leads; Body 11.5 x 14 mm)
pins: 1 VPP (power), 2 A16 (in), 3 A15 (in), 4 A12 (in), 5 A7 (in), 6 A6 (in), 7 A5 (in), 8 A4 (in), 9 A3 (in), 10 A2 (in), 11 A1 (in), 12 A0 (in), 13 Q0 (io), 14 Q1 (io), 15 Q2 (io), 16 GND (power), 17 Q3 (io), 18 Q4 (io), 19 Q5 (io), 20 Q6 (io), 21 Q7 (io), 22 ~{CE} (in), 23 A10 (in), 24 ~{OE} (in), 25 A11 (in), 26 A9 (in), 27 A8 (in), 28 A13 (in), 29 A14 (in), 30 A17 (in), 31 ~{PROG} (in), 32 VCC (power)

## M27C2001-12F1
designator U?
2 Mbit (256Kb x 8) UV EPROM and OTP EPROM; Published: 24-Aug-2001; LatestRevisionDate: 06-Jun-2005; LatestRevisionNote: Stylized 3D Model Added.; DatasheetVersion: Apr-1999; PackageReference: FDIP32W; Publisher: Altium Limited; PackageDescription: Ceramic Frit-seal DIP, Window; 32 Leads; Row Spacing 15.24 mm; Pitch 2.54 mm; ComponentLink1Description: Manufacturer Link; ComponentLink1URL: http://www.st.com/; ComponentLink2Description: Datasheet; ComponentLink2URL: http://www.st.com/stonline/products/literature/ds/2383/m27c2001.pdf
footprint FDIP32W (Ceramic Frit-seal DIP, Window; 32 Leads; Row Spacing 15.24 mm; Pitch 2.54 mm)
3D model FDIP32W (Ceramic Frit-seal DIP, Window; 32 Leads; Row Spacing 15.24 mm; Pitch 2.54 mm)
pins: 1 VPP (power), 2 A16 (in), 3 A15 (in), 4 A12 (in), 5 A7 (in), 6 A6 (in), 7 A5 (in), 8 A4 (in), 9 A3 (in), 10 A2 (in), 11 A1 (in), 12 A0 (in), 13 Q0 (io), 14 Q1 (io), 15 Q2 (io), 16 GND (power), 17 Q3 (io), 18 Q4 (io), 19 Q5 (io), 20 Q6 (io), 21 Q7 (io), 22 ~{CE} (in), 23 A10 (in), 24 ~{OE} (in), 25 A11 (in), 26 A9 (in), 27 A8 (in), 28 A13 (in), 29 A14 (in), 30 A17 (in), 31 ~{PROG} (in), 32 VCC (power)

## M27C2001-12F6
designator U?
2 Mbit (256Kb x 8) UV EPROM and OTP EPROM; Published: 24-Aug-2001; LatestRevisionDate: 06-Jun-2005; LatestRevisionNote: Stylized 3D Model Added.; DatasheetVersion: Apr-1999; PackageReference: FDIP32W; Publisher: Altium Limited; PackageDescription: Ceramic Frit-seal DIP, Window; 32 Leads; Row Spacing 15.24 mm; Pitch 2.54 mm; ComponentLink1Description: Manufacturer Link; ComponentLink1URL: http://www.st.com/; ComponentLink2Description: Datasheet; ComponentLink2URL: http://www.st.com/stonline/products/literature/ds/2383/m27c2001.pdf
footprint FDIP32W (Ceramic Frit-seal DIP, Window; 32 Leads; Row Spacing 15.24 mm; Pitch 2.54 mm)
3D model FDIP32W (Ceramic Frit-seal DIP, Window; 32 Leads; Row Spacing 15.24 mm; Pitch 2.54 mm)
pins: 1 VPP (power), 2 A16 (in), 3 A15 (in), 4 A12 (in), 5 A7 (in), 6 A6 (in), 7 A5 (in), 8 A4 (in), 9 A3 (in), 10 A2 (in), 11 A1 (in), 12 A0 (in), 13 Q0 (io), 14 Q1 (io), 15 Q2 (io), 16 GND (power), 17 Q3 (io), 18 Q4 (io), 19 Q5 (io), 20 Q6 (io), 21 Q7 (io), 22 ~{CE} (in), 23 A10 (in), 24 ~{OE} (in), 25 A11 (in), 26 A9 (in), 27 A8 (in), 28 A13 (in), 29 A14 (in), 30 A17 (in), 31 ~{PROG} (in), 32 VCC (power)

## M27C2001-12L1
designator U?
2 Mbit (256Kb x 8) UV EPROM and OTP EPROM; Published: 24-Aug-2001; LatestRevisionDate: 17-Jul-2002; LatestRevisionNote: Re-released for DXP Platform.; DatasheetVersion: Apr-1999; PackageReference: LCCC32W; Publisher: Altium Limited; PackageDescription: Leadless Chip Carrier, Ceramic, Window; 32 Terminals; Body 11.4 x 14 mm; ComponentLink1Description: Manufacturer Link; ComponentLink1URL: http://www.st.com/; ComponentLink2Description: Datasheet; ComponentLink2URL: http://www.st.com/stonline/products/literature/ds/2383/m27c2001.pdf
footprint LCCC32W (Leadless Chip Carrier, Ceramic, Window; 32 Terminals; Body 11.4 x 14 mm)
pins: 1 VPP (power), 2 A16 (in), 3 A15 (in), 4 A12 (in), 5 A7 (in), 6 A6 (in), 7 A5 (in), 8 A4 (in), 9 A3 (in), 10 A2 (in), 11 A1 (in), 12 A0 (in), 13 Q0 (io), 14 Q1 (io), 15 Q2 (io), 16 GND (power), 17 Q3 (io), 18 Q4 (io), 19 Q5 (io), 20 Q6 (io), 21 Q7 (io), 22 ~{CE} (in), 23 A10 (in), 24 ~{OE} (in), 25 A11 (in), 26 A9 (in), 27 A8 (in), 28 A13 (in), 29 A14 (in), 30 A17 (in), 31 ~{PROG} (in), 32 VCC (power)

## M27C2001-12L6
designator U?
2 Mbit (256Kb x 8) UV EPROM and OTP EPROM; Published: 24-Aug-2001; LatestRevisionDate: 17-Jul-2002; LatestRevisionNote: Re-released for DXP Platform.; DatasheetVersion: Apr-1999; PackageReference: LCCC32W; Publisher: Altium Limited; PackageDescription: Leadless Chip Carrier, Ceramic, Window; 32 Terminals; Body 11.4 x 14 mm; ComponentLink1Description: Manufacturer Link; ComponentLink1URL: http://www.st.com/; ComponentLink2Description: Datasheet; ComponentLink2URL: http://www.st.com/stonline/products/literature/ds/2383/m27c2001.pdf
footprint LCCC32W (Leadless Chip Carrier, Ceramic, Window; 32 Terminals; Body 11.4 x 14 mm)
pins: 1 VPP (power), 2 A16 (in), 3 A15 (in), 4 A12 (in), 5 A7 (in), 6 A6 (in), 7 A5 (in), 8 A4 (in), 9 A3 (in), 10 A2 (in), 11 A1 (in), 12 A0 (in), 13 Q0 (io), 14 Q1 (io), 15 Q2 (io), 16 GND (power), 17 Q3 (io), 18 Q4 (io), 19 Q5 (io), 20 Q6 (io), 21 Q7 (io), 22 ~{CE} (in), 23 A10 (in), 24 ~{OE} (in), 25 A11 (in), 26 A9 (in), 27 A8 (in), 28 A13 (in), 29 A14 (in), 30 A17 (in), 31 ~{PROG} (in), 32 VCC (power)

## M27C2001-12N1
designator U?
2 Mbit (256Kb x 8) UV EPROM and OTP EPROM; Published: 24-Aug-2001; LatestRevisionDate: 06-Jun-2005; LatestRevisionNote: Stylized 3D Model Added.; DatasheetVersion: Apr-1999; PackageVersion: Mar-1999; PackageReference: TSOP32; Publisher: Altium Limited; PackageDescription: Shrink Small Outline, Plastic, Thin; 32 Leads; Body Width 18.4 mm; Pitch 0.5 mm; Code_JEDEC: MO-142-BD; ComponentLink1Description: Manufacturer Link; ComponentLink1URL: http://www.st.com/; ComponentLink2Description: Datasheet; ComponentLink2URL: http://www.st.com/stonline/products/literature/ds/2383/m27c2001.pdf
footprint TSOP32 (Shrink Small Outline, Plastic, Thin; 32 Leads; Body Width 18.4 mm; Pitch 0.5 mm)
3D model TSOP32 (Shrink Small Outline, Plastic, Thin; 32 Leads; Body Width 18.4 mm; Pitch 0.5 mm)
pins: 1 A11 (in), 2 A9 (in), 3 A8 (in), 4 A13 (in), 5 A14 (in), 6 A17 (in), 7 ~{PROG} (in), 8 VCC (power), 9 VPP (power), 10 A16 (in), 11 A15 (in), 12 A12 (in), 13 A7 (in), 14 A6 (in), 15 A5 (in), 16 A4 (in), 17 A3 (in), 18 A2 (in), 19 A1 (in), 20 A0 (in), 21 Q0 (io), 22 Q1 (io), 23 Q2 (io), 24 GND (power), 25 Q3 (io), 26 Q4 (io), 27 Q5 (io), 28 Q6 (io), 29 Q7 (io), 30 ~{CE} (in), 31 A10 (in), 32 ~{OE} (in)

## M27C2001-12N6
designator U?
2 Mbit (256Kb x 8) UV EPROM and OTP EPROM; Published: 24-Aug-2001; LatestRevisionDate: 06-Jun-2005; LatestRevisionNote: Stylized 3D Model Added.; DatasheetVersion: Apr-1999; PackageVersion: Mar-1999; PackageReference: TSOP32; Publisher: Altium Limited; PackageDescription: Shrink Small Outline, Plastic, Thin; 32 Leads; Body Width 18.4 mm; Pitch 0.5 mm; Code_JEDEC: MO-142-BD; ComponentLink1Description: Manufacturer Link; ComponentLink1URL: http://www.st.com/; ComponentLink2Description: Datasheet; ComponentLink2URL: http://www.st.com/stonline/products/literature/ds/2383/m27c2001.pdf
footprint TSOP32 (Shrink Small Outline, Plastic, Thin; 32 Leads; Body Width 18.4 mm; Pitch 0.5 mm)
3D model TSOP32 (Shrink Small Outline, Plastic, Thin; 32 Leads; Body Width 18.4 mm; Pitch 0.5 mm)
pins: 1 A11 (in), 2 A9 (in), 3 A8 (in), 4 A13 (in), 5 A14 (in), 6 A17 (in), 7 ~{PROG} (in), 8 VCC (power), 9 VPP (power), 10 A16 (in), 11 A15 (in), 12 A12 (in), 13 A7 (in), 14 A6 (in), 15 A5 (in), 16 A4 (in), 17 A3 (in), 18 A2 (in), 19 A1 (in), 20 A0 (in), 21 Q0 (io), 22 Q1 (io), 23 Q2 (io), 24 GND (power), 25 Q3 (io), 26 Q4 (io), 27 Q5 (io), 28 Q6 (io), 29 Q7 (io), 30 ~{CE} (in), 31 A10 (in), 32 ~{OE} (in)

## M27C2001-12XC1
designator U?
2 Mbit (256Kb x 8) UV EPROM and OTP EPROM; Published: 24-Aug-2001; LatestRevisionDate: 06-Jun-2005; LatestRevisionNote: Stylized 3D Model Added.; DatasheetVersion: Apr-1999; PackageVersion: Jun-1998; PackageReference: PLCC32; Publisher: Altium Limited; PackageDescription: Leaded Chip Carrier; 32 Leads; Body 11.5 x 14 mm; Code_JEDEC: MS-016-AE; Code_IPC: PLCC/R-32; ComponentLink1Description: Manufacturer Link; ComponentLink1URL: http://www.st.com/; ComponentLink2Description: Datasheet; ComponentLink2URL: http://www.st.com/stonline/products/literature/ds/2383/m27c2001.pdf
footprint PLCC32 (Leaded Chip Carrier; 32 Leads; Body 11.5 x 14 mm)
3D model M27C2001-PLCC32 (Leaded Chip Carrier; 32 Leads; Body 11.5 x 14 mm)
pins: 1 VPP (power), 2 A16 (in), 3 A15 (in), 4 A12 (in), 5 A7 (in), 6 A6 (in), 7 A5 (in), 8 A4 (in), 9 A3 (in), 10 A2 (in), 11 A1 (in), 12 A0 (in), 13 Q0 (io), 14 Q1 (io), 15 Q2 (io), 16 GND (power), 17 Q3 (io), 18 Q4 (io), 19 Q5 (io), 20 Q6 (io), 21 Q7 (io), 22 ~{CE} (in), 23 A10 (in), 24 ~{OE} (in), 25 A11 (in), 26 A9 (in), 27 A8 (in), 28 A13 (in), 29 A14 (in), 30 A17 (in), 31 ~{PROG} (in), 32 VCC (power)

## M27C2001-12XC6
designator U?
2 Mbit (256Kb x 8) UV EPROM and OTP EPROM; Published: 24-Aug-2001; LatestRevisionDate: 06-Jun-2005; LatestRevisionNote: Stylized 3D Model Added.; DatasheetVersion: Apr-1999; PackageVersion: Jun-1998; PackageReference: PLCC32; Publisher: Altium Limited; PackageDescription: Leaded Chip Carrier; 32 Leads; Body 11.5 x 14 mm; Code_JEDEC: MS-016-AE; Code_IPC: PLCC/R-32; ComponentLink1Description: Manufacturer Link; ComponentLink1URL: http://www.st.com/; ComponentLink2Description: Datasheet; ComponentLink2URL: http://www.st.com/stonline/products/literature/ds/2383/m27c2001.pdf
footprint PLCC32 (Leaded Chip Carrier; 32 Leads; Body 11.5 x 14 mm)
3D model M27C2001-PLCC32 (Leaded Chip Carrier; 32 Leads; Body 11.5 x 14 mm)
pins: 1 VPP (power), 2 A16 (in), 3 A15 (in), 4 A12 (in), 5 A7 (in), 6 A6 (in), 7 A5 (in), 8 A4 (in), 9 A3 (in), 10 A2 (in), 11 A1 (in), 12 A0 (in), 13 Q0 (io), 14 Q1 (io), 15 Q2 (io), 16 GND (power), 17 Q3 (io), 18 Q4 (io), 19 Q5 (io), 20 Q6 (io), 21 Q7 (io), 22 ~{CE} (in), 23 A10 (in), 24 ~{OE} (in), 25 A11 (in), 26 A9 (in), 27 A8 (in), 28 A13 (in), 29 A14 (in), 30 A17 (in), 31 ~{PROG} (in), 32 VCC (power)

## M27C2001-12XF1
designator U?
2 Mbit (256Kb x 8) UV EPROM and OTP EPROM; Published: 24-Aug-2001; LatestRevisionDate: 06-Jun-2005; LatestRevisionNote: Stylized 3D Model Added.; DatasheetVersion: Apr-1999; PackageReference: FDIP32W; Publisher: Altium Limited; PackageDescription: Ceramic Frit-seal DIP, Window; 32 Leads; Row Spacing 15.24 mm; Pitch 2.54 mm; ComponentLink1Description: Manufacturer Link; ComponentLink1URL: http://www.st.com/; ComponentLink2Description: Datasheet; ComponentLink2URL: http://www.st.com/stonline/products/literature/ds/2383/m27c2001.pdf
footprint FDIP32W (Ceramic Frit-seal DIP, Window; 32 Leads; Row Spacing 15.24 mm; Pitch 2.54 mm)
3D model FDIP32W (Ceramic Frit-seal DIP, Window; 32 Leads; Row Spacing 15.24 mm; Pitch 2.54 mm)
pins: 1 VPP (power), 2 A16 (in), 3 A15 (in), 4 A12 (in), 5 A7 (in), 6 A6 (in), 7 A5 (in), 8 A4 (in), 9 A3 (in), 10 A2 (in), 11 A1 (in), 12 A0 (in), 13 Q0 (io), 14 Q1 (io), 15 Q2 (io), 16 GND (power), 17 Q3 (io), 18 Q4 (io), 19 Q5 (io), 20 Q6 (io), 21 Q7 (io), 22 ~{CE} (in), 23 A10 (in), 24 ~{OE} (in), 25 A11 (in), 26 A9 (in), 27 A8 (in), 28 A13 (in), 29 A14 (in), 30 A17 (in), 31 ~{PROG} (in), 32 VCC (power)

## M27C2001-12XF6
designator U?
2 Mbit (256Kb x 8) UV EPROM and OTP EPROM; Published: 24-Aug-2001; LatestRevisionDate: 06-Jun-2005; LatestRevisionNote: Stylized 3D Model Added.; DatasheetVersion: Apr-1999; PackageReference: FDIP32W; Publisher: Altium Limited; PackageDescription: Ceramic Frit-seal DIP, Window; 32 Leads; Row Spacing 15.24 mm; Pitch 2.54 mm; ComponentLink1Description: Manufacturer Link; ComponentLink1URL: http://www.st.com/; ComponentLink2Description: Datasheet; ComponentLink2URL: http://www.st.com/stonline/products/literature/ds/2383/m27c2001.pdf
footprint FDIP32W (Ceramic Frit-seal DIP, Window; 32 Leads; Row Spacing 15.24 mm; Pitch 2.54 mm)
3D model FDIP32W (Ceramic Frit-seal DIP, Window; 32 Leads; Row Spacing 15.24 mm; Pitch 2.54 mm)
pins: 1 VPP (power), 2 A16 (in), 3 A15 (in), 4 A12 (in), 5 A7 (in), 6 A6 (in), 7 A5 (in), 8 A4 (in), 9 A3 (in), 10 A2 (in), 11 A1 (in), 12 A0 (in), 13 Q0 (io), 14 Q1 (io), 15 Q2 (io), 16 GND (power), 17 Q3 (io), 18 Q4 (io), 19 Q5 (io), 20 Q6 (io), 21 Q7 (io), 22 ~{CE} (in), 23 A10 (in), 24 ~{OE} (in), 25 A11 (in), 26 A9 (in), 27 A8 (in), 28 A13 (in), 29 A14 (in), 30 A17 (in), 31 ~{PROG} (in), 32 VCC (power)

## M27C2001-12XL1
designator U?
2 Mbit (256Kb x 8) UV EPROM and OTP EPROM; Published: 24-Aug-2001; LatestRevisionDate: 17-Jul-2002; LatestRevisionNote: Re-released for DXP Platform.; DatasheetVersion: Apr-1999; PackageReference: LCCC32W; Publisher: Altium Limited; PackageDescription: Leadless Chip Carrier, Ceramic, Window; 32 Terminals; Body 11.4 x 14 mm; ComponentLink1Description: Manufacturer Link; ComponentLink1URL: http://www.st.com/; ComponentLink2Description: Datasheet; ComponentLink2URL: http://www.st.com/stonline/products/literature/ds/2383/m27c2001.pdf
footprint LCCC32W (Leadless Chip Carrier, Ceramic, Window; 32 Terminals; Body 11.4 x 14 mm)
pins: 1 VPP (power), 2 A16 (in), 3 A15 (in), 4 A12 (in), 5 A7 (in), 6 A6 (in), 7 A5 (in), 8 A4 (in), 9 A3 (in), 10 A2 (in), 11 A1 (in), 12 A0 (in), 13 Q0 (io), 14 Q1 (io), 15 Q2 (io), 16 GND (power), 17 Q3 (io), 18 Q4 (io), 19 Q5 (io), 20 Q6 (io), 21 Q7 (io), 22 ~{CE} (in), 23 A10 (in), 24 ~{OE} (in), 25 A11 (in), 26 A9 (in), 27 A8 (in), 28 A13 (in), 29 A14 (in), 30 A17 (in), 31 ~{PROG} (in), 32 VCC (power)

## M27C2001-12XL6
designator U?
2 Mbit (256Kb x 8) UV EPROM and OTP EPROM; Published: 24-Aug-2001; LatestRevisionDate: 17-Jul-2002; LatestRevisionNote: Re-released for DXP Platform.; DatasheetVersion: Apr-1999; PackageReference: LCCC32W; Publisher: Altium Limited; PackageDescription: Leadless Chip Carrier, Ceramic, Window; 32 Terminals; Body 11.4 x 14 mm; ComponentLink1Description: Manufacturer Link; ComponentLink1URL: http://www.st.com/; ComponentLink2Description: Datasheet; ComponentLink2URL: http://www.st.com/stonline/products/literature/ds/2383/m27c2001.pdf
footprint LCCC32W (Leadless Chip Carrier, Ceramic, Window; 32 Terminals; Body 11.4 x 14 mm)
pins: 1 VPP (power), 2 A16 (in), 3 A15 (in), 4 A12 (in), 5 A7 (in), 6 A6 (in), 7 A5 (in), 8 A4 (in), 9 A3 (in), 10 A2 (in), 11 A1 (in), 12 A0 (in), 13 Q0 (io), 14 Q1 (io), 15 Q2 (io), 16 GND (power), 17 Q3 (io), 18 Q4 (io), 19 Q5 (io), 20 Q6 (io), 21 Q7 (io), 22 ~{CE} (in), 23 A10 (in), 24 ~{OE} (in), 25 A11 (in), 26 A9 (in), 27 A8 (in), 28 A13 (in), 29 A14 (in), 30 A17 (in), 31 ~{PROG} (in), 32 VCC (power)

## M27C2001-12XN1
designator U?
2 Mbit (256Kb x 8) UV EPROM and OTP EPROM; Published: 24-Aug-2001; LatestRevisionDate: 06-Jun-2005; LatestRevisionNote: Stylized 3D Model Added.; DatasheetVersion: Apr-1999; PackageVersion: Mar-1999; PackageReference: TSOP32; Publisher: Altium Limited; PackageDescription: Shrink Small Outline, Plastic, Thin; 32 Leads; Body Width 18.4 mm; Pitch 0.5 mm; Code_JEDEC: MO-142-BD; ComponentLink1Description: Manufacturer Link; ComponentLink1URL: http://www.st.com/; ComponentLink2Description: Datasheet; ComponentLink2URL: http://www.st.com/stonline/products/literature/ds/2383/m27c2001.pdf
footprint TSOP32 (Shrink Small Outline, Plastic, Thin; 32 Leads; Body Width 18.4 mm; Pitch 0.5 mm)
3D model TSOP32 (Shrink Small Outline, Plastic, Thin; 32 Leads; Body Width 18.4 mm; Pitch 0.5 mm)
pins: 1 A11 (in), 2 A9 (in), 3 A8 (in), 4 A13 (in), 5 A14 (in), 6 A17 (in), 7 ~{PROG} (in), 8 VCC (power), 9 VPP (power), 10 A16 (in), 11 A15 (in), 12 A12 (in), 13 A7 (in), 14 A6 (in), 15 A5 (in), 16 A4 (in), 17 A3 (in), 18 A2 (in), 19 A1 (in), 20 A0 (in), 21 Q0 (io), 22 Q1 (io), 23 Q2 (io), 24 GND (power), 25 Q3 (io), 26 Q4 (io), 27 Q5 (io), 28 Q6 (io), 29 Q7 (io), 30 ~{CE} (in), 31 A10 (in), 32 ~{OE} (in)

## M27C2001-12XN6
designator U?
2 Mbit (256Kb x 8) UV EPROM and OTP EPROM; Published: 24-Aug-2001; LatestRevisionDate: 06-Jun-2005; LatestRevisionNote: Stylized 3D Model Added.; DatasheetVersion: Apr-1999; PackageVersion: Mar-1999; PackageReference: TSOP32; Publisher: Altium Limited; PackageDescription: Shrink Small Outline, Plastic, Thin; 32 Leads; Body Width 18.4 mm; Pitch 0.5 mm; Code_JEDEC: MO-142-BD; ComponentLink1Description: Manufacturer Link; ComponentLink1URL: http://www.st.com/; ComponentLink2Description: Datasheet; ComponentLink2URL: http://www.st.com/stonline/products/literature/ds/2383/m27c2001.pdf
footprint TSOP32 (Shrink Small Outline, Plastic, Thin; 32 Leads; Body Width 18.4 mm; Pitch 0.5 mm)
3D model TSOP32 (Shrink Small Outline, Plastic, Thin; 32 Leads; Body Width 18.4 mm; Pitch 0.5 mm)
pins: 1 A11 (in), 2 A9 (in), 3 A8 (in), 4 A13 (in), 5 A14 (in), 6 A17 (in), 7 ~{PROG} (in), 8 VCC (power), 9 VPP (power), 10 A16 (in), 11 A15 (in), 12 A12 (in), 13 A7 (in), 14 A6 (in), 15 A5 (in), 16 A4 (in), 17 A3 (in), 18 A2 (in), 19 A1 (in), 20 A0 (in), 21 Q0 (io), 22 Q1 (io), 23 Q2 (io), 24 GND (power), 25 Q3 (io), 26 Q4 (io), 27 Q5 (io), 28 Q6 (io), 29 Q7 (io), 30 ~{CE} (in), 31 A10 (in), 32 ~{OE} (in)

## M27C2001-15B1
designator U?
2 Mbit (256Kb x 8) UV EPROM and OTP EPROM; Published: 24-Aug-2001; LatestRevisionDate: 06-Jun-2005; LatestRevisionNote: Stylized 3D Model Added.; DatasheetVersion: Apr-1999; PackageVersion: 1998; PackageReference: PDIP32; Publisher: Altium Limited; PackageDescription: DIP, Plastic; 32 Leads; Row Spacing 15.24 mm; Pitch 2.54 mm; ComponentLink1Description: Manufacturer Link; ComponentLink1URL: http://www.st.com/; ComponentLink2Description: Datasheet; ComponentLink2URL: http://www.st.com/stonline/products/literature/ds/2383/m27c2001.pdf
footprint PDIP32 (DIP, Plastic; 32 Leads; Row Spacing 15.24 mm; Pitch 2.54 mm)
3D model FDIP32W (DIP, Plastic; 32 Leads; Row Spacing 15.24 mm; Pitch 2.54 mm)
pins: 1 VPP (power), 2 A16 (in), 3 A15 (in), 4 A12 (in), 5 A7 (in), 6 A6 (in), 7 A5 (in), 8 A4 (in), 9 A3 (in), 10 A2 (in), 11 A1 (in), 12 A0 (in), 13 Q0 (io), 14 Q1 (io), 15 Q2 (io), 16 GND (power), 17 Q3 (io), 18 Q4 (io), 19 Q5 (io), 20 Q6 (io), 21 Q7 (io), 22 ~{CE} (in), 23 A10 (in), 24 ~{OE} (in), 25 A11 (in), 26 A9 (in), 27 A8 (in), 28 A13 (in), 29 A14 (in), 30 A17 (in), 31 ~{PROG} (in), 32 VCC (power)

## M27C2001-15C1
designator U?
2 Mbit (256Kb x 8) UV EPROM and OTP EPROM; Published: 24-Aug-2001; LatestRevisionDate: 06-Jun-2005; LatestRevisionNote: Stylized 3D Model Added.; DatasheetVersion: Apr-1999; PackageVersion: Jun-1998; PackageReference: PLCC32; Publisher: Altium Limited; PackageDescription: Leaded Chip Carrier; 32 Leads; Body 11.5 x 14 mm; Code_JEDEC: MS-016-AE; Code_IPC: PLCC/R-32; ComponentLink1Description: Manufacturer Link; ComponentLink1URL: http://www.st.com/; ComponentLink2Description: Datasheet; ComponentLink2URL: http://www.st.com/stonline/products/literature/ds/2383/m27c2001.pdf
footprint PLCC32 (Leaded Chip Carrier; 32 Leads; Body 11.5 x 14 mm)
3D model M27C2001-PLCC32 (Leaded Chip Carrier; 32 Leads; Body 11.5 x 14 mm)
pins: 1 VPP (power), 2 A16 (in), 3 A15 (in), 4 A12 (in), 5 A7 (in), 6 A6 (in), 7 A5 (in), 8 A4 (in), 9 A3 (in), 10 A2 (in), 11 A1 (in), 12 A0 (in), 13 Q0 (io), 14 Q1 (io), 15 Q2 (io), 16 GND (power), 17 Q3 (io), 18 Q4 (io), 19 Q5 (io), 20 Q6 (io), 21 Q7 (io), 22 ~{CE} (in), 23 A10 (in), 24 ~{OE} (in), 25 A11 (in), 26 A9 (in), 27 A8 (in), 28 A13 (in), 29 A14 (in), 30 A17 (in), 31 ~{PROG} (in), 32 VCC (power)

## M27C2001-15C6
designator U?
2 Mbit (256Kb x 8) UV EPROM and OTP EPROM; Published: 24-Aug-2001; LatestRevisionDate: 06-Jun-2005; LatestRevisionNote: Stylized 3D Model Added.; DatasheetVersion: Apr-1999; PackageVersion: Jun-1998; PackageReference: PLCC32; Publisher: Altium Limited; PackageDescription: Leaded Chip Carrier; 32 Leads; Body 11.5 x 14 mm; Code_JEDEC: MS-016-AE; Code_IPC: PLCC/R-32; ComponentLink1Description: Manufacturer Link; ComponentLink1URL: http://www.st.com/; ComponentLink2Description: Datasheet; ComponentLink2URL: http://www.st.com/stonline/products/literature/ds/2383/m27c2001.pdf
footprint PLCC32 (Leaded Chip Carrier; 32 Leads; Body 11.5 x 14 mm)
3D model M27C2001-PLCC32 (Leaded Chip Carrier; 32 Leads; Body 11.5 x 14 mm)
pins: 1 VPP (power), 2 A16 (in), 3 A15 (in), 4 A12 (in), 5 A7 (in), 6 A6 (in), 7 A5 (in), 8 A4 (in), 9 A3 (in), 10 A2 (in), 11 A1 (in), 12 A0 (in), 13 Q0 (io), 14 Q1 (io), 15 Q2 (io), 16 GND (power), 17 Q3 (io), 18 Q4 (io), 19 Q5 (io), 20 Q6 (io), 21 Q7 (io), 22 ~{CE} (in), 23 A10 (in), 24 ~{OE} (in), 25 A11 (in), 26 A9 (in), 27 A8 (in), 28 A13 (in), 29 A14 (in), 30 A17 (in), 31 ~{PROG} (in), 32 VCC (power)

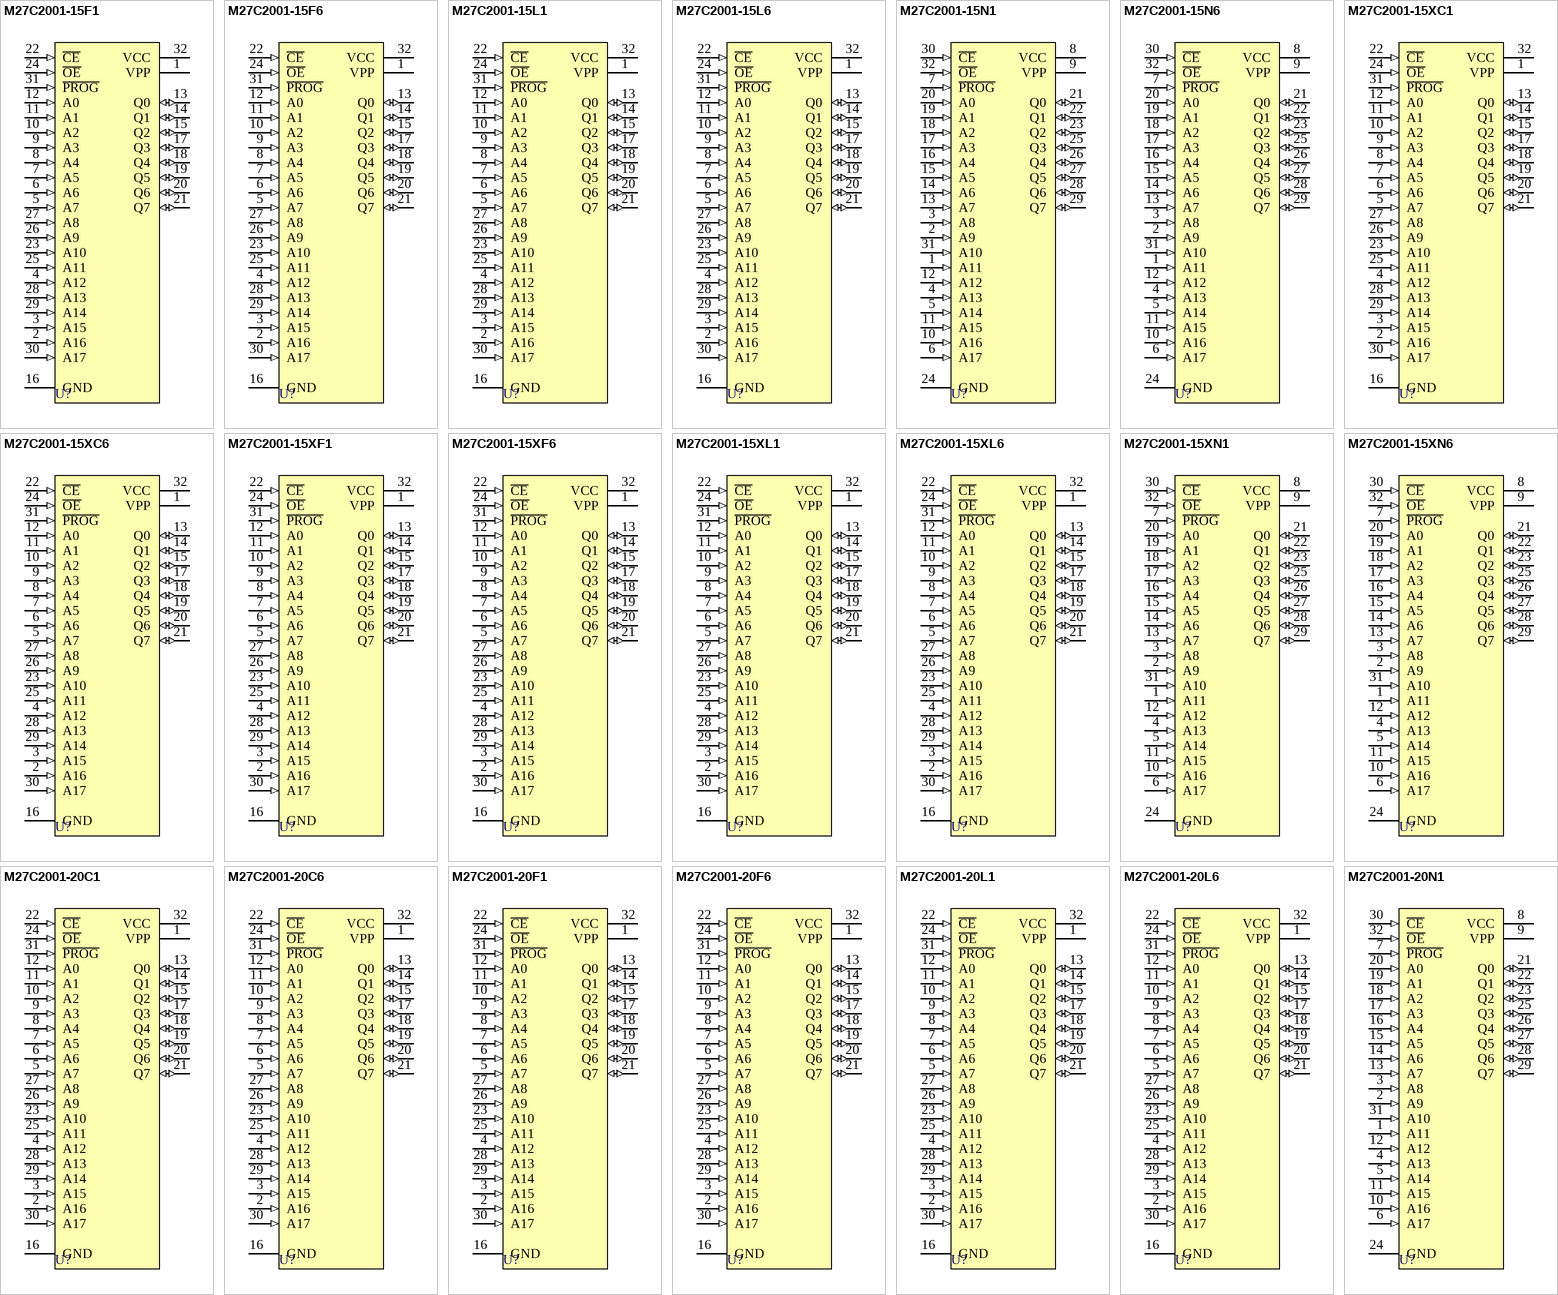
[diagram p29: symbols M27C2001-15F1 to M27C2001-20N1]

## M27C2001-15F1
designator U?
2 Mbit (256Kb x 8) UV EPROM and OTP EPROM; Published: 24-Aug-2001; LatestRevisionDate: 06-Jun-2005; LatestRevisionNote: Stylized 3D Model Added.; DatasheetVersion: Apr-1999; PackageReference: FDIP32W; Publisher: Altium Limited; PackageDescription: Ceramic Frit-seal DIP, Window; 32 Leads; Row Spacing 15.24 mm; Pitch 2.54 mm; ComponentLink1Description: Manufacturer Link; ComponentLink1URL: http://www.st.com/; ComponentLink2Description: Datasheet; ComponentLink2URL: http://www.st.com/stonline/products/literature/ds/2383/m27c2001.pdf
footprint FDIP32W (Ceramic Frit-seal DIP, Window; 32 Leads; Row Spacing 15.24 mm; Pitch 2.54 mm)
3D model FDIP32W (Ceramic Frit-seal DIP, Window; 32 Leads; Row Spacing 15.24 mm; Pitch 2.54 mm)
pins: 1 VPP (power), 2 A16 (in), 3 A15 (in), 4 A12 (in), 5 A7 (in), 6 A6 (in), 7 A5 (in), 8 A4 (in), 9 A3 (in), 10 A2 (in), 11 A1 (in), 12 A0 (in), 13 Q0 (io), 14 Q1 (io), 15 Q2 (io), 16 GND (power), 17 Q3 (io), 18 Q4 (io), 19 Q5 (io), 20 Q6 (io), 21 Q7 (io), 22 ~{CE} (in), 23 A10 (in), 24 ~{OE} (in), 25 A11 (in), 26 A9 (in), 27 A8 (in), 28 A13 (in), 29 A14 (in), 30 A17 (in), 31 ~{PROG} (in), 32 VCC (power)

## M27C2001-15F6
designator U?
2 Mbit (256Kb x 8) UV EPROM and OTP EPROM; Published: 24-Aug-2001; LatestRevisionDate: 06-Jun-2005; LatestRevisionNote: Stylized 3D Model Added.; DatasheetVersion: Apr-1999; PackageReference: FDIP32W; Publisher: Altium Limited; PackageDescription: Ceramic Frit-seal DIP, Window; 32 Leads; Row Spacing 15.24 mm; Pitch 2.54 mm; ComponentLink1Description: Manufacturer Link; ComponentLink1URL: http://www.st.com/; ComponentLink2Description: Datasheet; ComponentLink2URL: http://www.st.com/stonline/products/literature/ds/2383/m27c2001.pdf
footprint FDIP32W (Ceramic Frit-seal DIP, Window; 32 Leads; Row Spacing 15.24 mm; Pitch 2.54 mm)
3D model FDIP32W (Ceramic Frit-seal DIP, Window; 32 Leads; Row Spacing 15.24 mm; Pitch 2.54 mm)
pins: 1 VPP (power), 2 A16 (in), 3 A15 (in), 4 A12 (in), 5 A7 (in), 6 A6 (in), 7 A5 (in), 8 A4 (in), 9 A3 (in), 10 A2 (in), 11 A1 (in), 12 A0 (in), 13 Q0 (io), 14 Q1 (io), 15 Q2 (io), 16 GND (power), 17 Q3 (io), 18 Q4 (io), 19 Q5 (io), 20 Q6 (io), 21 Q7 (io), 22 ~{CE} (in), 23 A10 (in), 24 ~{OE} (in), 25 A11 (in), 26 A9 (in), 27 A8 (in), 28 A13 (in), 29 A14 (in), 30 A17 (in), 31 ~{PROG} (in), 32 VCC (power)

## M27C2001-15L1
designator U?
2 Mbit (256Kb x 8) UV EPROM and OTP EPROM; Published: 24-Aug-2001; LatestRevisionDate: 17-Jul-2002; LatestRevisionNote: Re-released for DXP Platform.; DatasheetVersion: Apr-1999; PackageReference: LCCC32W; Publisher: Altium Limited; PackageDescription: Leadless Chip Carrier, Ceramic, Window; 32 Terminals; Body 11.4 x 14 mm; ComponentLink1Description: Manufacturer Link; ComponentLink1URL: http://www.st.com/; ComponentLink2Description: Datasheet; ComponentLink2URL: http://www.st.com/stonline/products/literature/ds/2383/m27c2001.pdf
footprint LCCC32W (Leadless Chip Carrier, Ceramic, Window; 32 Terminals; Body 11.4 x 14 mm)
pins: 1 VPP (power), 2 A16 (in), 3 A15 (in), 4 A12 (in), 5 A7 (in), 6 A6 (in), 7 A5 (in), 8 A4 (in), 9 A3 (in), 10 A2 (in), 11 A1 (in), 12 A0 (in), 13 Q0 (io), 14 Q1 (io), 15 Q2 (io), 16 GND (power), 17 Q3 (io), 18 Q4 (io), 19 Q5 (io), 20 Q6 (io), 21 Q7 (io), 22 ~{CE} (in), 23 A10 (in), 24 ~{OE} (in), 25 A11 (in), 26 A9 (in), 27 A8 (in), 28 A13 (in), 29 A14 (in), 30 A17 (in), 31 ~{PROG} (in), 32 VCC (power)